# Altium schematic symbol library STEREO_JACK.SchLib: 1 symbol
Pins are listed as number, name and electrical type; pins without a type are passive.

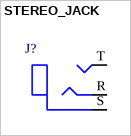
[diagram p0: symbol STEREO_JACK]

## STEREO_JACK
designator J?  (value not drawn)
pins: R, S, T